# Altium footprint library SPKR_AS01508MO-SC11-R.PcbLib: 1 footprints
Each footprint in its own frame and in the unit in brackets; x right, y up, seen from the top. Pads: shape width x height; smd on the part's side, far side on the other; paste and mask are expansions set on the pad; w line width, h text height; cw(c..) or ccw(c..) is an arc to the next point about the centre after c.
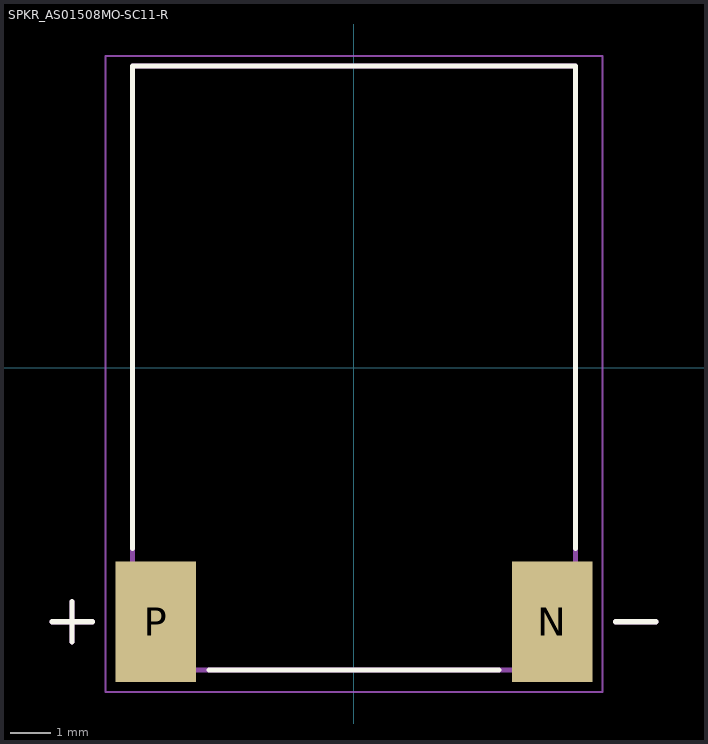
[diagram p0: the footprint, top view; thin cyan lines are the x and y axes]

## SPKR_AS01508MO-SC11-R [mm]
height 4.8
pads (2):
  rect 2x3 smd: N(4.925,-6.3) P(-4.925,-6.3)
Top Overlay:
  lines w0.127: -7.5,-6.3 -6.5,-6.3 ; -7,-6.8 -7,-5.8 ; -5.5,-4.48 -5.5,7.5 5.5,7.5 5.5,-4.48 ; -3.6,-7.5 3.6,-7.5 ; 6.5,-6.3 7.5,-6.3
Mechanical 13:
  lines w0.127: -7.5,-6.3 -6.5,-6.3 ; -7,-6.8 -7,-5.8 ; 6.5,-6.3 7.5,-6.3 ; -5.5,-7.5 5.5,-7.5 5.5,7.5 -5.5,7.5 -5.5,-7.5
Mechanical 15:
  lines w0.05: -6.175,-8.05 6.175,-8.05 6.175,7.75 -6.175,7.75 -6.175,-8.05
3D body "step_temp.STEP": height 4, standoff -0.8, extent -10.492,-5.513 7.508,5.487